# Altium integrated library Linear Technology PMIC-Switching Reg LTC1174-LTC3901.IntLib: 2647 symbols (part 237 of 310)
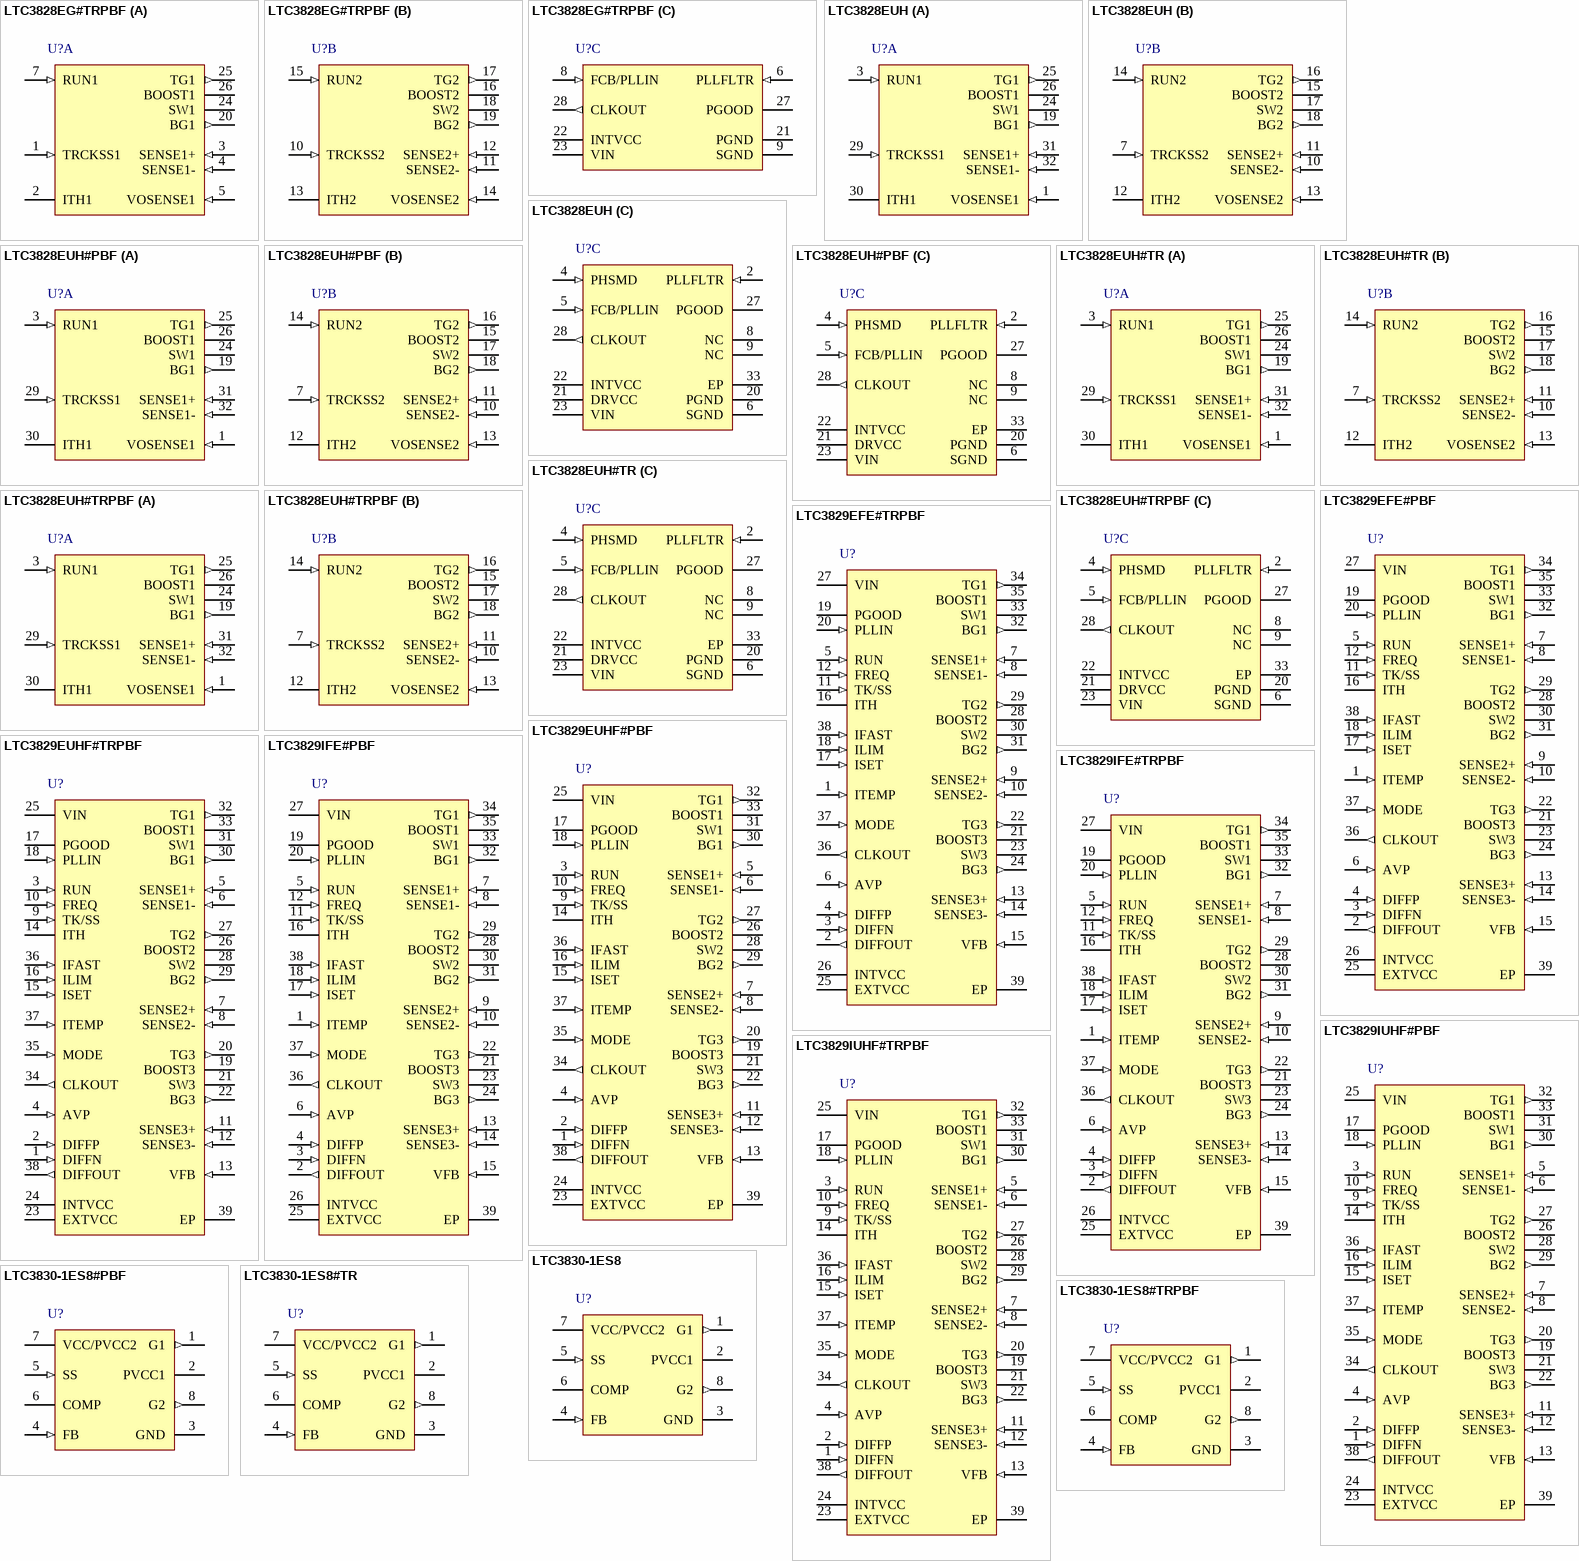
[diagram p255: symbols LTC3828EG#TRPBF to LTC3830-1ES8#TRPBF]

## LTC3828EUH#TRPBF
designator U?
Dual, 2-Phase Step-Down Controller with Tracking, 32-pin QFN (UH-32), -40 to 85 degC, Pb-Free, Tape and Reel; Manufacturer: Linear Technology; PartNumber: LTC3828EUH#TRPBF; Number of Outputs: 1; PackageReference: UH-32; PackageDescription: 32-Pin Plastic QFN, Body 5 x 5 mm, Pitch 0.5 mm; Supplier 1: Digi-Key; Supplier Part Number 1: LTC3828EUH#TRPBF-ND; RoHS: TRUE; Code_JEDEC: MO-220
footprint LT-UH-32_N (QFN, 32-Leads, Body 5.1x5.1mm, Pitch 0.5mm, Thermal Pad 3.45X3.45mm, IPC Medium Density)
footprint LT-UH-32_L (QFN, 32-Leads, Body 5.1x5.1mm, Pitch 0.5mm, Thermal Pad 3.45X3.45mm, IPC High Density)
footprint LT-UH-32_M (QFN, 32-Leads, Body 5.1x5.1mm, Pitch 0.5mm, Thermal Pad 3.45X3.45mm, IPC Low Density)
part A pins: 1 VOSENSE1 (in) "Error Amplifier Feedback Input. Receives the remotely-sensed feedback voltage for each controller from an external resistive divider across the output.", 3 RUN1 (in) "Run Control Inputs. Forcing RUN pins below 1V would shut down the circuitry required for that particular channel. Forcing the RUN pins over 2V would turn on the IC.", 19 BG1 (out) "High Current Gate Drives for Bottom (Synchronous) N-Channel MOSFETs. Voltage swing at these pins is from ground to INTVCC.", 24 SW1 "Switch Node Connections to Inductors. Voltage swing at these pins is from a Schottky diode (external) voltage drop below ground to VIN.", 25 TG1 (out) "High Current Gate Drives for Top N-Channel MOSFETs. These are the outputs of floating drivers with a voltage swing equal to INTVCC-0.5V superimposed on the switch node voltage SW.", 26 BOOST1 "Bootstrapped Supplies to the Topside Floating Drivers. Capacitors are connected between the boost and switch pins and Schottky diodes are tied between the boost and INTVCC pins. Voltage swing at the boost pins is from INTVCC (See Datasheet)", 29 TRCKSS1 (in) "Soft-Start and Output Voltage Tracking Inputs. When one channel is configured to be the master of two outputs a capacitor to ground at this pin sets the ramp rate. The slave channel tracks the output of the master channel by (See Datasheet)", 30 ITH1 "Error Amplifier Output and Switching Regulator Compensation Point. Each associated channels?current comparator trip point increases with this control voltage.", 31 SENSE1+ (in) "The (+) Input to the Differential Current Comparators. The ITH pin voltage and controlled offsets between the SENSE-and SENSE+ pins in conjunction with RSENSE set the current trip threshold.", 32 SENSE1- (in) "The (-) Input to the Differential Current Comparators."
part B pins: 7 TRCKSS2 (in) "Soft-Start and Output Voltage Tracking Inputs. When one channel is configured to be the master of two outputs a capacitor to ground at this pin sets the ramp rate. The slave channel tracks the output of the master channel by (See Datasheet)", 10 SENSE2- (in) "The (-) Input to the Differential Current Comparators.", 11 SENSE2+ (in) "The (+) Input to the Differential Current Comparators. The ITH pin voltage and controlled offsets between the SENSE-and SENSE+ pins in conjunction with RSENSE set the current trip threshold.", 12 ITH2 "Error Amplifier Output and Switching Regulator Compensation Point. Each associated channels?current comparator trip point increases with this control voltage.", 13 VOSENSE2 (in) "Error Amplifier Feedback Input. Receives the remotely-sensed feedback voltage for each controller from an external resistive divider across the output.", 14 RUN2 (in) "Run Control Inputs. Forcing RUN pins below 1V would shut down the circuitry required for that particular channel. Forcing the RUN pins over 2V would turn on the IC.", 15 BOOST2 "Bootstrapped Supplies to the Topside Floating Drivers. Capacitors are connected between the boost and switch pins and Schottky diodes are tied between the boost and INTVCC pins. Voltage swing at the boost pins is from INTVCC (See Datasheet)", 16 TG2 (out) "High Current Gate Drives for Top N-Channel MOSFETs. These are the outputs of floating drivers with a voltage swing equal to INTVCC-0.5V superimposed on the switch node voltage SW.", 17 SW2 "Switch Node Connections to Inductors. Voltage swing at these pins is from a Schottky diode (external) voltage drop below ground to VIN.", 18 BG2 (out) "High Current Gate Drives for Bottom (Synchronous) N-Channel MOSFETs. Voltage swing at these pins is from ground to INTVCC."
part C pins: 2 PLLFLTR (in) "Filter Connection for Phase-Locked Loop. Alternatively, this pin can be driven with an AC or DC voltage source to vary the frequency of the internal oscillator.", 4 PHSMD (in) "Control input to phase selector which determines the phase relationship between controller 1, controller 2 and the clockout signal.", 5 FCB/PLLIN (in) "Forced Continuous Control Input and External Synchronization Input to Phase Detector. Pulling this pin below 0.8V will force continuous synchronous operation. Feeding an external clock signal will synchronize the LTC3828 to (See Datasheet)", 6 SGND (power) "Small-Signal Ground. Common to both controllers, this pin must be routed separately from high current grounds to the common (-) terminals of the COUT capacitors.", 8 NC "These “no connect?pins are not tied internally to anything. On the PC layout, these pin landings should be connected to the SGND plane under the IC.", 9 NC "These “no connect?pins are not tied internally to anything. On the PC layout, these pin landings should be connected to the SGND plane under the IC.", 20 PGND (power) "Driver Power Ground. Connects to the sources of bottom (synchronous) N-channel MOSFETs, anodes of the Schottky rectifiers and the (-) terminal(s) of CIN.", 21 DRVCC (power) "External Power Input to Gate Drives. It can be connected with INTVCC together and use INTVCC as gate drives power supply.", 22 INTVCC (power) "Output of the Internal 5V Linear Low Dropout Regulator. The driver and control circuits are powered from this voltage source. Must be decoupled to power ground with a minimum of 4.7uF tantalum or other low ESR capacitor.", 23 VIN (power) "Main Supply Pin. A bypass capacitor should be tied between this pin and the signal ground pin.", 27 PGOOD (oc) "Open-Drain Logic Output. PGOOD is pulled to ground when the voltage on either VOSENSE pin is not within +/-7.5% of its set point.", 28 CLKOUT (out) "Output clock signal available to daisy-chain other controller ICs for additional MOSFET driver stages/phases.", 33 EP (power) "Signal Ground. Must be soldered to the PCB, providing a local ground for the control components of the IC, and be tied to the PGND pin under the IC."

## LTC3829EFE#PBF
designator U?
3-Phase, Single Output Synchronous Step-Down DC/DC Controller with Differential Amplifier, 38-pin SOP (FE-38-EPV-AA), -40 to 125 degC, Pb-Free; Manufacturer: Linear Technology; PartNumber: LTC3829EFE#PBF; Number of Outputs: 1; PackageReference: FE-38; PackageDescription: 38-Pin Plastic TSSOP, Body 9.7 x 4.4 mm, Pitch 0.5 mm; Supplier 1: Digi-Key; Supplier Part Number 1: LTC3829EFE#PBF-ND; RoHS: TRUE
footprint LT-FE-38-EPV-AA_N (SOP, 38-Leads, Body 9.8x4.5mm, Pitch 0.5mm, Thermal Pad 4.75x2.74mm, IPC Medium Density)
footprint LT-FE-38-EPV-AA_L (SOP, 38-Leads, Body 9.8x4.5mm, Pitch 0.5mm, Thermal Pad 4.75x2.74mm, IPC High Density)
footprint LT-FE-38-EPV-AA_M (SOP, 38-Leads, Body 9.8x4.5mm, Pitch 0.5mm, Thermal Pad 4.75x2.74mm, IPC Low Density)
pins: 1 ITEMP (in) "Input of the Temperature Sensing Comparator. Connect this pin to external NTC resistors placed near inductors.", 2 DIFFOUT (out) "Output of Remote Sensing Differential Amplifier. Connect this pin to VFB through a resistive divider.", 3 DIFFN (in) "Negative Input of Remote Sensing Differential Amplifier. Connect this to the remote load ground pin.", 4 DIFFP (in) "Positive Input of Remote Sensing Differential Amplifier. Must connect this to the remote load positive terminal directly even when diffamp is not used.", 5 RUN (in) "Run Control Input. A voltage above 1.22V on this pin turns on the IC. There is a 1.0uA pull-up current for this pin. Once the RUN pin rises above 1.22V, an additional 4.5uA pull-up current is added to the pin.", 6 AVP (in) "Active Voltage Positioning Load Slope Programming Pin. A resistor tied between this pin and the DIFFP pin sets the load slope. The AVP function can only be used with the remote sensing differential amplifier. Short AVP pin (See Datasheet)", 7 SENSE1+ (in) "Current Sense Comparator Inputs. The (+) inputs to the current comparators are normally connected to DCR sensing networks or current sensing resistors.", 8 SENSE1- (in) "Current Sense Comparator Inputs. The (-) inputs to the current comparators are connected to the output.", 9 SENSE2+ (in) "Current Sense Comparator Inputs. The (+) inputs to the current comparators are normally connected to DCR sensing networks or current sensing resistors", 10 SENSE2- (in) "Current Sense Comparator Inputs. The (-) inputs to the current comparators are connected to the output.", 11 TK/SS (in) "Output Voltage Tracking and Soft- Start Input. When one particular IC is configured to be the master of two ICs, a capacitor to ground at this pin sets the ramp rate for the master IC’s output voltage. When the IC i(See Datasheet)", 12 FREQ (in) "There is a precision 10uA current sourced out of this pin. A resistor to ground sets a voltage which in turn programs the frequency. Alternatively, this pin can be driven with a DC voltage to vary the frequency of the (See Datasheet)", 13 SENSE3+ (in) "Current Sense Comparator Inputs. The (+) inputs to the current comparators are normally connected to DCR sensing networks or current sensing resistors.", 14 SENSE3- (in) "Current Sense Comparator Inputs. The (-) inputs to the current comparators are connected to the output.", 15 VFB (in) "Error Amplifier Feedback Input. This pin receives the remotely sensed feedback voltage from an external resistive divider", 16 ITH "Current Control Threshold and Error Amplifier Compensation Point. Each associated channels?current comparator tripping threshold increases with this ITH control voltage.", 17 ISET (in) "Stage Shedding Comparator and Burst Mode Comparator Programming Pin. A resistor to ground programs the stage shedding comparator threshold or Burst Mode comparator threshold and its current limit depending on MODE pin (See Datasheet)", 18 ILIM (in) "Current Comparator Sense Voltage Range Pin. This pin is to be programmed to SGND, FLOAT or INTVCC to set the maximum current sense threshold to one of three different levels for each comparator.", 19 PGOOD (oc) "Power Good Indicator Output. Open-drain logic out that is pulled to ground when the output exceeds +/-10% regulation window after the internal 100us power bad mask timer expires.", 20 PLLIN (in) "External Synchronization Pin. A clock on the pin synchronizes the internal oscillator with the clock on this pin.", 21 BOOST3 "Boosted Floating Driver Supplies. The (+) terminal of the bootstrap capacitors connect to these pins. These pins swing from a diode voltage drop below INTVCC up to VIN + INTVCC.", 22 TG3 (out) "Top Gate Driver Outputs. These are the outputs of floating drivers with a voltage swing equal to INTVCC superimposed on the switch nodes voltages.", 23 SW3 "Switch Node Connections to Inductors. Voltage swing at these pins is from a Schottky diode (external) voltage drop below ground to VIN", 24 BG3 (out) "Bottom Gate Driver Outputs. These pins drive the gates of the bottom N-channel MOSFETs between PGND and INTVCC.", 25 EXTVCC (power) "External Power Input to an Internal Switch Connected to INTVCC. This switch closes and supplies the IC power, bypassing the internal low dropout regulator, whenever EXTVCC is higher than 4.7V. Do not exceed 6V on this pin (See Datasheet)", 26 INTVCC (power) "Internal 5V Regulator Output. The control circuits are powered from this voltage. Decouple this pin to PGND with a minimum of 4.7uF low ESR tantalum or ceramic capacitor.", 27 VIN (power) "Main Input Supply. Decouple this pin to PGND with a capacitor (0.1uF to 1uF).", 28 BOOST2 "Boosted Floating Driver Supplies. The (+) terminal of the bootstrap capacitors connect to these pins. These pins swing from a diode voltage drop below INTVCC up to VIN + INTVCC.", 29 TG2 (out) "Top Gate Driver Outputs. These are the outputs of floating drivers with a voltage swing equal to INTVCC superimposed on the switch nodes voltages.", 30 SW2 "Switch Node Connections to Inductors. Voltage swing at these pins is from a Schottky diode (external) voltage drop below ground to VIN", 31 BG2 (out) "Bottom Gate Driver Outputs. These pins drive the gates of the bottom N-channel MOSFETs between PGND and INTVCC.", 32 BG1 (out) "Bottom Gate Driver Outputs. These pins drive the gates of the bottom N-channel MOSFETs between PGND and INTVCC.", 33 SW1 "Switch Node Connections to Inductors. Voltage swing at these pins is from a Schottky diode (external) voltage drop below ground to VIN", 34 TG1 (out) "Top Gate Driver Outputs. These are the outputs of floating drivers with a voltage swing equal to INTVCC superimposed on the switch nodes voltages.", 35 BOOST1 "Boosted Floating Driver Supplies. The (+) terminal of the bootstrap capacitors connect to these pins. These pins swing from a diode voltage drop below INTVCC up to VIN + INTVCC.", 36 CLKOUT (out) "Clock Output Pin. CLKOUT is 60degrees out of phase relative to channel 1 in non-shedding mode. During stage shedding, CLKOUT is 180degrees out of phase with channel 1.", 37 MODE (in) "Forced Continuous Mode, Burst Mode or Shed Mode Selection Pin. Connect this pin to SGND to force IC in continuous mode of operation. Connect to INTVCC to enable shed mode operation. Leave the pin floating to enable Burst (See Datasheet)", 38 IFAST (in) "Programmable Pin for Nonlinear Control Trip Threshold. A resistor to ground programs the tripping threshold for nonlinear control circuit. Connect this pin to INTVCC to disable this feature. See Applications Information (See Datasheet)", 39 EP (power) "Combined Signal and Power Ground Pad. Connect this pad closely to the sources of the bottom N-channel MOSFETs, the (-) terminal of CVCC and the (-) terminal of CIN. All small-signal components and compensation components (See Datasheet)"

## LTC3829EFE#TRPBF
designator U?
3-Phase, Single Output Synchronous Step-Down DC/DC Controller with Differential Amplifier, 38-pin SOP (FE-38-EPV-AA), -40 to 125 degC, Pb-Free, Tape and Reel; Manufacturer: Linear Technology; PartNumber: LTC3829EFE#TRPBF; Number of Outputs: 1; PackageReference: FE-38; PackageDescription: 38-Pin Plastic TSSOP, Body 9.7 x 4.4 mm, Pitch 0.5 mm; Supplier 1: Digi-Key; Supplier Part Number 1: LTC3829EFE#TRPBF-ND; RoHS: TRUE
footprint LT-FE-38-EPV-AA_N (SOP, 38-Leads, Body 9.8x4.5mm, Pitch 0.5mm, Thermal Pad 4.75x2.74mm, IPC Medium Density)
footprint LT-FE-38-EPV-AA_L (SOP, 38-Leads, Body 9.8x4.5mm, Pitch 0.5mm, Thermal Pad 4.75x2.74mm, IPC High Density)
footprint LT-FE-38-EPV-AA_M (SOP, 38-Leads, Body 9.8x4.5mm, Pitch 0.5mm, Thermal Pad 4.75x2.74mm, IPC Low Density)
pins: 1 ITEMP (in) "Input of the Temperature Sensing Comparator. Connect this pin to external NTC resistors placed near inductors.", 2 DIFFOUT (out) "Output of Remote Sensing Differential Amplifier. Connect this pin to VFB through a resistive divider.", 3 DIFFN (in) "Negative Input of Remote Sensing Differential Amplifier. Connect this to the remote load ground pin.", 4 DIFFP (in) "Positive Input of Remote Sensing Differential Amplifier. Must connect this to the remote load positive terminal directly even when diffamp is not used.", 5 RUN (in) "Run Control Input. A voltage above 1.22V on this pin turns on the IC. There is a 1.0uA pull-up current for this pin. Once the RUN pin rises above 1.22V, an additional 4.5uA pull-up current is added to the pin.", 6 AVP (in) "Active Voltage Positioning Load Slope Programming Pin. A resistor tied between this pin and the DIFFP pin sets the load slope. The AVP function can only be used with the remote sensing differential amplifier. Short AVP pin (See Datasheet)", 7 SENSE1+ (in) "Current Sense Comparator Inputs. The (+) inputs to the current comparators are normally connected to DCR sensing networks or current sensing resistors.", 8 SENSE1- (in) "Current Sense Comparator Inputs. The (-) inputs to the current comparators are connected to the output.", 9 SENSE2+ (in) "Current Sense Comparator Inputs. The (+) inputs to the current comparators are normally connected to DCR sensing networks or current sensing resistors", 10 SENSE2- (in) "Current Sense Comparator Inputs. The (-) inputs to the current comparators are connected to the output.", 11 TK/SS (in) "Output Voltage Tracking and Soft- Start Input. When one particular IC is configured to be the master of two ICs, a capacitor to ground at this pin sets the ramp rate for the master IC’s output voltage. When the IC i(See Datasheet)", 12 FREQ (in) "There is a precision 10uA current sourced out of this pin. A resistor to ground sets a voltage which in turn programs the frequency. Alternatively, this pin can be driven with a DC voltage to vary the frequency of the (See Datasheet)", 13 SENSE3+ (in) "Current Sense Comparator Inputs. The (+) inputs to the current comparators are normally connected to DCR sensing networks or current sensing resistors.", 14 SENSE3- (in) "Current Sense Comparator Inputs. The (-) inputs to the current comparators are connected to the output.", 15 VFB (in) "Error Amplifier Feedback Input. This pin receives the remotely sensed feedback voltage from an external resistive divider", 16 ITH "Current Control Threshold and Error Amplifier Compensation Point. Each associated channels?current comparator tripping threshold increases with this ITH control voltage.", 17 ISET (in) "Stage Shedding Comparator and Burst Mode Comparator Programming Pin. A resistor to ground programs the stage shedding comparator threshold or Burst Mode comparator threshold and its current limit depending on MODE pin (See Datasheet)", 18 ILIM (in) "Current Comparator Sense Voltage Range Pin. This pin is to be programmed to SGND, FLOAT or INTVCC to set the maximum current sense threshold to one of three different levels for each comparator.", 19 PGOOD (oc) "Power Good Indicator Output. Open-drain logic out that is pulled to ground when the output exceeds +/-10% regulation window after the internal 100us power bad mask timer expires.", 20 PLLIN (in) "External Synchronization Pin. A clock on the pin synchronizes the internal oscillator with the clock on this pin.", 21 BOOST3 "Boosted Floating Driver Supplies. The (+) terminal of the bootstrap capacitors connect to these pins. These pins swing from a diode voltage drop below INTVCC up to VIN + INTVCC.", 22 TG3 (out) "Top Gate Driver Outputs. These are the outputs of floating drivers with a voltage swing equal to INTVCC superimposed on the switch nodes voltages.", 23 SW3 "Switch Node Connections to Inductors. Voltage swing at these pins is from a Schottky diode (external) voltage drop below ground to VIN", 24 BG3 (out) "Bottom Gate Driver Outputs. These pins drive the gates of the bottom N-channel MOSFETs between PGND and INTVCC.", 25 EXTVCC (power) "External Power Input to an Internal Switch Connected to INTVCC. This switch closes and supplies the IC power, bypassing the internal low dropout regulator, whenever EXTVCC is higher than 4.7V. Do not exceed 6V on this pin (See Datasheet)", 26 INTVCC (power) "Internal 5V Regulator Output. The control circuits are powered from this voltage. Decouple this pin to PGND with a minimum of 4.7uF low ESR tantalum or ceramic capacitor.", 27 VIN (power) "Main Input Supply. Decouple this pin to PGND with a capacitor (0.1uF to 1uF).", 28 BOOST2 "Boosted Floating Driver Supplies. The (+) terminal of the bootstrap capacitors connect to these pins. These pins swing from a diode voltage drop below INTVCC up to VIN + INTVCC.", 29 TG2 (out) "Top Gate Driver Outputs. These are the outputs of floating drivers with a voltage swing equal to INTVCC superimposed on the switch nodes voltages.", 30 SW2 "Switch Node Connections to Inductors. Voltage swing at these pins is from a Schottky diode (external) voltage drop below ground to VIN", 31 BG2 (out) "Bottom Gate Driver Outputs. These pins drive the gates of the bottom N-channel MOSFETs between PGND and INTVCC.", 32 BG1 (out) "Bottom Gate Driver Outputs. These pins drive the gates of the bottom N-channel MOSFETs between PGND and INTVCC.", 33 SW1 "Switch Node Connections to Inductors. Voltage swing at these pins is from a Schottky diode (external) voltage drop below ground to VIN", 34 TG1 (out) "Top Gate Driver Outputs. These are the outputs of floating drivers with a voltage swing equal to INTVCC superimposed on the switch nodes voltages.", 35 BOOST1 "Boosted Floating Driver Supplies. The (+) terminal of the bootstrap capacitors connect to these pins. These pins swing from a diode voltage drop below INTVCC up to VIN + INTVCC.", 36 CLKOUT (out) "Clock Output Pin. CLKOUT is 60degrees out of phase relative to channel 1 in non-shedding mode. During stage shedding, CLKOUT is 180degrees out of phase with channel 1.", 37 MODE (in) "Forced Continuous Mode, Burst Mode or Shed Mode Selection Pin. Connect this pin to SGND to force IC in continuous mode of operation. Connect to INTVCC to enable shed mode operation. Leave the pin floating to enable Burst (See Datasheet)", 38 IFAST (in) "Programmable Pin for Nonlinear Control Trip Threshold. A resistor to ground programs the tripping threshold for nonlinear control circuit. Connect this pin to INTVCC to disable this feature. See Applications Information (See Datasheet)", 39 EP (power) "Combined Signal and Power Ground Pad. Connect this pad closely to the sources of the bottom N-channel MOSFETs, the (-) terminal of CVCC and the (-) terminal of CIN. All small-signal components and compensation components (See Datasheet)"

## LTC3829EUHF#PBF
designator U?
3-Phase, Single Output Synchronous Step-Down DC/DC Controller with Differential Amplifier, 38-pin QFN (UHF-38), -40 to 125 degC, Pb-Free; Manufacturer: Linear Technology; PartNumber: LTC3829EUHF#PBF; Number of Outputs: 1; PackageReference: UHF-38; PackageDescription: 38-Pin Plastic QFN, Body 7 x 5 mm, Pitch 0.5 mm; Supplier 1: Digi-Key; Supplier Part Number 1: LTC3829EUHF#PBF-ND; RoHS: TRUE; Code_JEDEC: MO-220
footprint LT-UHF-38_N (QFN, 38-Leads, Body 7.1x5.1mm, Pitch 0.5mm, Thermal Pad 3.15x5.15mm, IPC Medium Density)
footprint LT-UHF-38_L (QFN, 38-Leads, Body 7.1x5.1mm, Pitch 0.5mm, Thermal Pad 3.15x5.15mm, IPC High Density)
footprint LT-UHF-38_M (QFN, 38-Leads, Body 7.1x5.1mm, Pitch 0.5mm, Thermal Pad 3.15x5.15mm, IPC Low Density)
pins: 1 DIFFN (in) "Negative Input of Remote Sensing Differential Amplifier. Connect this to the remote load ground pin.", 2 DIFFP (in) "Positive Input of Remote Sensing Differential Amplifier. Must connect this to the remote load positive terminal directly even when diffamp is not used.", 3 RUN (in) "Run Control Input. A voltage above 1.22V on this pin turns on the IC. There is a 1.0uA pull-up current for this pin. Once the RUN pin rises above 1.22V, an additional 4.5uA pull-up current is added to the pin.", 4 AVP (in) "Active Voltage Positioning Load Slope Programming Pin. A resistor tied between this pin and the DIFFP pin sets the load slope. The AVP function can only be used with the remote sensing differential amplifier. Short AVP pin (See Datasheet)", 5 SENSE1+ (in) "Current Sense Comparator Inputs. The (+) inputs to the current comparators are normally connected to DCR sensing networks or current sensing resistors.", 6 SENSE1- (in) "Current Sense Comparator Inputs. The (-) inputs to the current comparators are connected to the output.", 7 SENSE2+ (in) "Current Sense Comparator Inputs. The (+) inputs to the current comparators are normally connected to DCR sensing networks or current sensing resistors.", 8 SENSE2- (in) "Current Sense Comparator Inputs. The (-) inputs to the current comparators are connected to the output.", 9 TK/SS (in) "Output Voltage Tracking and Soft- Start Input. When one particular IC is configured to be the master of two ICs, a capacitor to ground at this pin sets the ramp rate for the master IC’s output voltage. When the IC i(See Datasheet)", 10 FREQ (in) "There is a precision 10uA current sourced out of this pin. A resistor to ground sets a voltage which in turn programs the frequency. Alternatively, this pin can be driven with a DC voltage to vary the frequency of the (See Datasheet)", 11 SENSE3+ (in) "Current Sense Comparator Inputs. The (+) inputs to the current comparators are normally connected to DCR sensing networks or current sensing resistors.", 12 SENSE3- (in) "Current Sense Comparator Inputs. The (-) inputs to the current comparators are connected to the output.", 13 VFB (in) "Error Amplifier Feedback Input. This pin receives the remotely sensed feedback voltage from an external resistive divider", 14 ITH "Current Control Threshold and Error Amplifier Compensation Point. Each associated channels?current comparator tripping threshold increases with this ITH control voltage.", 15 ISET (in) "Stage Shedding Comparator and Burst Mode Comparator Programming Pin. A resistor to ground programs the stage shedding comparator threshold or Burst Mode comparator threshold and its current limit depending on MODE pin (See Datasheet)", 16 ILIM (in) "Current Comparator Sense Voltage Range Pin. This pin is to be programmed to SGND, FLOAT or INTVCC to set the maximum current sense threshold to one of three different levels for each comparator.", 17 PGOOD (oc) "Power Good Indicator Output. Open-drain logic out that is pulled to ground when the output exceeds +/-10% regulation window after the internal 100us power bad mask timer expires.", 18 PLLIN (in) "External Synchronization Pin. A clock on the pin synchronizes the internal oscillator with the clock on this pin.", 19 BOOST3 "Boosted Floating Driver Supplies. The (+) terminal of the bootstrap capacitors connect to these pins. These pins swing from a diode voltage drop below INTVCC up to VIN + INTVCC.", 20 TG3 (out) "Top Gate Driver Outputs. These are the outputs of floating drivers with a voltage swing equal to INTVCC superimposed on the switch nodes voltages.", 21 SW3 "Switch Node Connections to Inductors. Voltage swing at these pins is from a Schottky diode (external) voltage drop below ground to VIN.", 22 BG3 (out) "Bottom Gate Driver Outputs. These pins drive the gates of the bottom N-channel MOSFETs between PGND and INTVCC.", 23 EXTVCC (power) "External Power Input to an Internal Switch Connected to INTVCC. This switch closes and supplies the IC power, bypassing the internal low dropout regulator, whenever EXTVCC is higher than 4.7V. Do not exceed 6V on this pin (See Datasheet)", 24 INTVCC (power) "Internal 5V Regulator Output. The control circuits are powered from this voltage. Decouple this pin to PGND with a minimum of 4.7uF low ESR tantalum or ceramic capacitor.", 25 VIN (power) "Main Input Supply. Decouple this pin to PGND with a capacitor (0.1uF to 1uF).", 26 BOOST2 "Boosted Floating Driver Supplies. The (+) terminal of the bootstrap capacitors connect to these pins. These pins swing from a diode voltage drop below INTVCC up to VIN + INTVCC.", 27 TG2 (out) "Top Gate Driver Outputs. These are the outputs of floating drivers with a voltage swing equal to INTVCC superimposed on the switch nodes voltages.", 28 SW2 "Switch Node Connections to Inductors. Voltage swing at these pins is from a Schottky diode (external) voltage drop below ground to VIN.", 29 BG2 (out) "Bottom Gate Driver Outputs. These pins drive the gates of the bottom N-channel MOSFETs between PGND and INTVCC.", 30 BG1 (out) "Bottom Gate Driver Outputs. These pins drive the gates of the bottom N-channel MOSFETs between PGND and INTVCC.", 31 SW1 "Switch Node Connections to Inductors. Voltage swing at these pins is from a Schottky diode (external) voltage drop below ground to VIN.", 32 TG1 (out) "Top Gate Driver Outputs. These are the outputs of floating drivers with a voltage swing equal to INTVCC superimposed on the switch nodes voltages.", 33 BOOST1 "Boosted Floating Driver Supplies. The (+) terminal of the bootstrap capacitors connect to these pins. These pins swing from a diode voltage drop below INTVCC up to VIN + INTVCC.", 34 CLKOUT (out) "Clock Output Pin. CLKOUT is 60degrees out of phase relative to channel 1 in non-shedding mode. During stage shedding, CLKOUT is 180degrees out of phase with channel 1.", 35 MODE (in) "Forced Continuous Mode, Burst Mode or Shed Mode Selection Pin. Connect this pin to SGND to force IC in continuous mode of operation. Connect to INTVCC to enable shed mode operation. Leave the pin floating to enable Burst (See Datasheet)", 36 IFAST (in) "Programmable Pin for Nonlinear Control Trip Threshold. A resistor to ground programs the tripping threshold for nonlinear control circuit. Connect this pin to INTVCC to disable this feature. See Applications Information (See Datasheet)", 37 ITEMP (in) "Input of the Temperature Sensing Comparator. Connect this pin to external NTC resistors placed near inductors.", 38 DIFFOUT (out) "Output of Remote Sensing Differential Amplifier. Connect this pin to VFB through a resistive divider.", 39 EP (power) "Combined Signal and Power Ground Pad. Connect this pad closely to the sources of the bottom N-channel MOSFETs, the (-) terminal of CVCC and the (-) terminal of CIN. All small-signal components and compensation components (See Datasheet)"

## LTC3829EUHF#TRPBF
designator U?
3-Phase, Single Output Synchronous Step-Down DC/DC Controller with Differential Amplifier, 38-pin QFN (UHF-38), -40 to 125 degC, Pb-Free, Tape and Reel; Manufacturer: Linear Technology; PartNumber: LTC3829EUHF#TRPBF; Number of Outputs: 1; PackageReference: UHF-38; PackageDescription: 38-Pin Plastic QFN, Body 7 x 5 mm, Pitch 0.5 mm; Supplier 1: Digi-Key; Supplier Part Number 1: LTC3829EUHF#TRPBF-ND; RoHS: TRUE; Code_JEDEC: MO-220
footprint LT-UHF-38_N (QFN, 38-Leads, Body 7.1x5.1mm, Pitch 0.5mm, Thermal Pad 3.15x5.15mm, IPC Medium Density)
footprint LT-UHF-38_L (QFN, 38-Leads, Body 7.1x5.1mm, Pitch 0.5mm, Thermal Pad 3.15x5.15mm, IPC High Density)
footprint LT-UHF-38_M (QFN, 38-Leads, Body 7.1x5.1mm, Pitch 0.5mm, Thermal Pad 3.15x5.15mm, IPC Low Density)
pins: 1 DIFFN (in) "Negative Input of Remote Sensing Differential Amplifier. Connect this to the remote load ground pin.", 2 DIFFP (in) "Positive Input of Remote Sensing Differential Amplifier. Must connect this to the remote load positive terminal directly even when diffamp is not used.", 3 RUN (in) "Run Control Input. A voltage above 1.22V on this pin turns on the IC. There is a 1.0uA pull-up current for this pin. Once the RUN pin rises above 1.22V, an additional 4.5uA pull-up current is added to the pin.", 4 AVP (in) "Active Voltage Positioning Load Slope Programming Pin. A resistor tied between this pin and the DIFFP pin sets the load slope. The AVP function can only be used with the remote sensing differential amplifier. Short AVP pin (See Datasheet)", 5 SENSE1+ (in) "Current Sense Comparator Inputs. The (+) inputs to the current comparators are normally connected to DCR sensing networks or current sensing resistors.", 6 SENSE1- (in) "Current Sense Comparator Inputs. The (-) inputs to the current comparators are connected to the output.", 7 SENSE2+ (in) "Current Sense Comparator Inputs. The (+) inputs to the current comparators are normally connected to DCR sensing networks or current sensing resistors.", 8 SENSE2- (in) "Current Sense Comparator Inputs. The (-) inputs to the current comparators are connected to the output.", 9 TK/SS (in) "Output Voltage Tracking and Soft- Start Input. When one particular IC is configured to be the master of two ICs, a capacitor to ground at this pin sets the ramp rate for the master IC’s output voltage. When the IC i(See Datasheet)", 10 FREQ (in) "There is a precision 10uA current sourced out of this pin. A resistor to ground sets a voltage which in turn programs the frequency. Alternatively, this pin can be driven with a DC voltage to vary the frequency of the (See Datasheet)", 11 SENSE3+ (in) "Current Sense Comparator Inputs. The (+) inputs to the current comparators are normally connected to DCR sensing networks or current sensing resistors.", 12 SENSE3- (in) "Current Sense Comparator Inputs. The (-) inputs to the current comparators are connected to the output.", 13 VFB (in) "Error Amplifier Feedback Input. This pin receives the remotely sensed feedback voltage from an external resistive divider", 14 ITH "Current Control Threshold and Error Amplifier Compensation Point. Each associated channels?current comparator tripping threshold increases with this ITH control voltage.", 15 ISET (in) "Stage Shedding Comparator and Burst Mode Comparator Programming Pin. A resistor to ground programs the stage shedding comparator threshold or Burst Mode comparator threshold and its current limit depending on MODE pin (See Datasheet)", 16 ILIM (in) "Current Comparator Sense Voltage Range Pin. This pin is to be programmed to SGND, FLOAT or INTVCC to set the maximum current sense threshold to one of three different levels for each comparator.", 17 PGOOD (oc) "Power Good Indicator Output. Open-drain logic out that is pulled to ground when the output exceeds +/-10% regulation window after the internal 100us power bad mask timer expires.", 18 PLLIN (in) "External Synchronization Pin. A clock on the pin synchronizes the internal oscillator with the clock on this pin.", 19 BOOST3 "Boosted Floating Driver Supplies. The (+) terminal of the bootstrap capacitors connect to these pins. These pins swing from a diode voltage drop below INTVCC up to VIN + INTVCC.", 20 TG3 (out) "Top Gate Driver Outputs. These are the outputs of floating drivers with a voltage swing equal to INTVCC superimposed on the switch nodes voltages.", 21 SW3 "Switch Node Connections to Inductors. Voltage swing at these pins is from a Schottky diode (external) voltage drop below ground to VIN.", 22 BG3 (out) "Bottom Gate Driver Outputs. These pins drive the gates of the bottom N-channel MOSFETs between PGND and INTVCC.", 23 EXTVCC (power) "External Power Input to an Internal Switch Connected to INTVCC. This switch closes and supplies the IC power, bypassing the internal low dropout regulator, whenever EXTVCC is higher than 4.7V. Do not exceed 6V on this pin (See Datasheet)", 24 INTVCC (power) "Internal 5V Regulator Output. The control circuits are powered from this voltage. Decouple this pin to PGND with a minimum of 4.7uF low ESR tantalum or ceramic capacitor.", 25 VIN (power) "Main Input Supply. Decouple this pin to PGND with a capacitor (0.1uF to 1uF).", 26 BOOST2 "Boosted Floating Driver Supplies. The (+) terminal of the bootstrap capacitors connect to these pins. These pins swing from a diode voltage drop below INTVCC up to VIN + INTVCC.", 27 TG2 (out) "Top Gate Driver Outputs. These are the outputs of floating drivers with a voltage swing equal to INTVCC superimposed on the switch nodes voltages.", 28 SW2 "Switch Node Connections to Inductors. Voltage swing at these pins is from a Schottky diode (external) voltage drop below ground to VIN.", 29 BG2 (out) "Bottom Gate Driver Outputs. These pins drive the gates of the bottom N-channel MOSFETs between PGND and INTVCC.", 30 BG1 (out) "Bottom Gate Driver Outputs. These pins drive the gates of the bottom N-channel MOSFETs between PGND and INTVCC.", 31 SW1 "Switch Node Connections to Inductors. Voltage swing at these pins is from a Schottky diode (external) voltage drop below ground to VIN.", 32 TG1 (out) "Top Gate Driver Outputs. These are the outputs of floating drivers with a voltage swing equal to INTVCC superimposed on the switch nodes voltages.", 33 BOOST1 "Boosted Floating Driver Supplies. The (+) terminal of the bootstrap capacitors connect to these pins. These pins swing from a diode voltage drop below INTVCC up to VIN + INTVCC.", 34 CLKOUT (out) "Clock Output Pin. CLKOUT is 60degrees out of phase relative to channel 1 in non-shedding mode. During stage shedding, CLKOUT is 180degrees out of phase with channel 1.", 35 MODE (in) "Forced Continuous Mode, Burst Mode or Shed Mode Selection Pin. Connect this pin to SGND to force IC in continuous mode of operation. Connect to INTVCC to enable shed mode operation. Leave the pin floating to enable Burst (See Datasheet)", 36 IFAST (in) "Programmable Pin for Nonlinear Control Trip Threshold. A resistor to ground programs the tripping threshold for nonlinear control circuit. Connect this pin to INTVCC to disable this feature. See Applications Information (See Datasheet)", 37 ITEMP (in) "Input of the Temperature Sensing Comparator. Connect this pin to external NTC resistors placed near inductors.", 38 DIFFOUT (out) "Output of Remote Sensing Differential Amplifier. Connect this pin to VFB through a resistive divider.", 39 EP (power) "Combined Signal and Power Ground Pad. Connect this pad closely to the sources of the bottom N-channel MOSFETs, the (-) terminal of CVCC and the (-) terminal of CIN. All small-signal components and compensation components (See Datasheet)"

## LTC3829IFE#PBF
designator U?
3-Phase, Single Output Synchronous Step-Down DC/DC Controller with Differential Amplifier, 38-pin SOP (FE-38-EPV-AA), -40 to 125 degC, Pb-Free; Manufacturer: Linear Technology; PartNumber: LTC3829IFE#PBF; Number of Outputs: 1; PackageReference: FE-38; PackageDescription: 38-Pin Plastic TSSOP, Body 9.7 x 4.4 mm, Pitch 0.5 mm; Supplier 1: Digi-Key; Supplier Part Number 1: LTC3829IFE#PBF-ND; RoHS: TRUE
footprint LT-FE-38-EPV-AA_N (SOP, 38-Leads, Body 9.8x4.5mm, Pitch 0.5mm, Thermal Pad 4.75x2.74mm, IPC Medium Density)
footprint LT-FE-38-EPV-AA_L (SOP, 38-Leads, Body 9.8x4.5mm, Pitch 0.5mm, Thermal Pad 4.75x2.74mm, IPC High Density)
footprint LT-FE-38-EPV-AA_M (SOP, 38-Leads, Body 9.8x4.5mm, Pitch 0.5mm, Thermal Pad 4.75x2.74mm, IPC Low Density)
pins: 1 ITEMP (in) "Input of the Temperature Sensing Comparator. Connect this pin to external NTC resistors placed near inductors.", 2 DIFFOUT (out) "Output of Remote Sensing Differential Amplifier. Connect this pin to VFB through a resistive divider.", 3 DIFFN (in) "Negative Input of Remote Sensing Differential Amplifier. Connect this to the remote load ground pin.", 4 DIFFP (in) "Positive Input of Remote Sensing Differential Amplifier. Must connect this to the remote load positive terminal directly even when diffamp is not used.", 5 RUN (in) "Run Control Input. A voltage above 1.22V on this pin turns on the IC. There is a 1.0uA pull-up current for this pin. Once the RUN pin rises above 1.22V, an additional 4.5uA pull-up current is added to the pin.", 6 AVP (in) "Active Voltage Positioning Load Slope Programming Pin. A resistor tied between this pin and the DIFFP pin sets the load slope. The AVP function can only be used with the remote sensing differential amplifier. Short AVP pin (See Datasheet)", 7 SENSE1+ (in) "Current Sense Comparator Inputs. The (+) inputs to the current comparators are normally connected to DCR sensing networks or current sensing resistors.", 8 SENSE1- (in) "Current Sense Comparator Inputs. The (-) inputs to the current comparators are connected to the output.", 9 SENSE2+ (in) "Current Sense Comparator Inputs. The (+) inputs to the current comparators are normally connected to DCR sensing networks or current sensing resistors", 10 SENSE2- (in) "Current Sense Comparator Inputs. The (-) inputs to the current comparators are connected to the output.", 11 TK/SS (in) "Output Voltage Tracking and Soft- Start Input. When one particular IC is configured to be the master of two ICs, a capacitor to ground at this pin sets the ramp rate for the master IC’s output voltage. When the IC i(See Datasheet)", 12 FREQ (in) "There is a precision 10uA current sourced out of this pin. A resistor to ground sets a voltage which in turn programs the frequency. Alternatively, this pin can be driven with a DC voltage to vary the frequency of the (See Datasheet)", 13 SENSE3+ (in) "Current Sense Comparator Inputs. The (+) inputs to the current comparators are normally connected to DCR sensing networks or current sensing resistors.", 14 SENSE3- (in) "Current Sense Comparator Inputs. The (-) inputs to the current comparators are connected to the output.", 15 VFB (in) "Error Amplifier Feedback Input. This pin receives the remotely sensed feedback voltage from an external resistive divider", 16 ITH "Current Control Threshold and Error Amplifier Compensation Point. Each associated channels?current comparator tripping threshold increases with this ITH control voltage.", 17 ISET (in) "Stage Shedding Comparator and Burst Mode Comparator Programming Pin. A resistor to ground programs the stage shedding comparator threshold or Burst Mode comparator threshold and its current limit depending on MODE pin (See Datasheet)", 18 ILIM (in) "Current Comparator Sense Voltage Range Pin. This pin is to be programmed to SGND, FLOAT or INTVCC to set the maximum current sense threshold to one of three different levels for each comparator.", 19 PGOOD (oc) "Power Good Indicator Output. Open-drain logic out that is pulled to ground when the output exceeds +/-10% regulation window after the internal 100us power bad mask timer expires.", 20 PLLIN (in) "External Synchronization Pin. A clock on the pin synchronizes the internal oscillator with the clock on this pin.", 21 BOOST3 "Boosted Floating Driver Supplies. The (+) terminal of the bootstrap capacitors connect to these pins. These pins swing from a diode voltage drop below INTVCC up to VIN + INTVCC.", 22 TG3 (out) "Top Gate Driver Outputs. These are the outputs of floating drivers with a voltage swing equal to INTVCC superimposed on the switch nodes voltages.", 23 SW3 "Switch Node Connections to Inductors. Voltage swing at these pins is from a Schottky diode (external) voltage drop below ground to VIN", 24 BG3 (out) "Bottom Gate Driver Outputs. These pins drive the gates of the bottom N-channel MOSFETs between PGND and INTVCC.", 25 EXTVCC (power) "External Power Input to an Internal Switch Connected to INTVCC. This switch closes and supplies the IC power, bypassing the internal low dropout regulator, whenever EXTVCC is higher than 4.7V. Do not exceed 6V on this pin (See Datasheet)", 26 INTVCC (power) "Internal 5V Regulator Output. The control circuits are powered from this voltage. Decouple this pin to PGND with a minimum of 4.7uF low ESR tantalum or ceramic capacitor.", 27 VIN (power) "Main Input Supply. Decouple this pin to PGND with a capacitor (0.1uF to 1uF).", 28 BOOST2 "Boosted Floating Driver Supplies. The (+) terminal of the bootstrap capacitors connect to these pins. These pins swing from a diode voltage drop below INTVCC up to VIN + INTVCC.", 29 TG2 (out) "Top Gate Driver Outputs. These are the outputs of floating drivers with a voltage swing equal to INTVCC superimposed on the switch nodes voltages.", 30 SW2 "Switch Node Connections to Inductors. Voltage swing at these pins is from a Schottky diode (external) voltage drop below ground to VIN", 31 BG2 (out) "Bottom Gate Driver Outputs. These pins drive the gates of the bottom N-channel MOSFETs between PGND and INTVCC.", 32 BG1 (out) "Bottom Gate Driver Outputs. These pins drive the gates of the bottom N-channel MOSFETs between PGND and INTVCC.", 33 SW1 "Switch Node Connections to Inductors. Voltage swing at these pins is from a Schottky diode (external) voltage drop below ground to VIN", 34 TG1 (out) "Top Gate Driver Outputs. These are the outputs of floating drivers with a voltage swing equal to INTVCC superimposed on the switch nodes voltages.", 35 BOOST1 "Boosted Floating Driver Supplies. The (+) terminal of the bootstrap capacitors connect to these pins. These pins swing from a diode voltage drop below INTVCC up to VIN + INTVCC.", 36 CLKOUT (out) "Clock Output Pin. CLKOUT is 60degrees out of phase relative to channel 1 in non-shedding mode. During stage shedding, CLKOUT is 180degrees out of phase with channel 1.", 37 MODE (in) "Forced Continuous Mode, Burst Mode or Shed Mode Selection Pin. Connect this pin to SGND to force IC in continuous mode of operation. Connect to INTVCC to enable shed mode operation. Leave the pin floating to enable Burst (See Datasheet)", 38 IFAST (in) "Programmable Pin for Nonlinear Control Trip Threshold. A resistor to ground programs the tripping threshold for nonlinear control circuit. Connect this pin to INTVCC to disable this feature. See Applications Information (See Datasheet)", 39 EP (power) "Combined Signal and Power Ground Pad. Connect this pad closely to the sources of the bottom N-channel MOSFETs, the (-) terminal of CVCC and the (-) terminal of CIN. All small-signal components and compensation components (See Datasheet)"